# Altium footprint library Radial_16x21.5mm_SMD.PcbLib: 1 footprints
Each footprint in its own frame and in the unit in brackets; x right, y up, seen from the top. Pads: shape width x height; smd on the part's side, far side on the other; paste and mask are expansions set on the pad; w line width, h text height; cw(c..) or ccw(c..) is an arc to the next point about the centre after c.
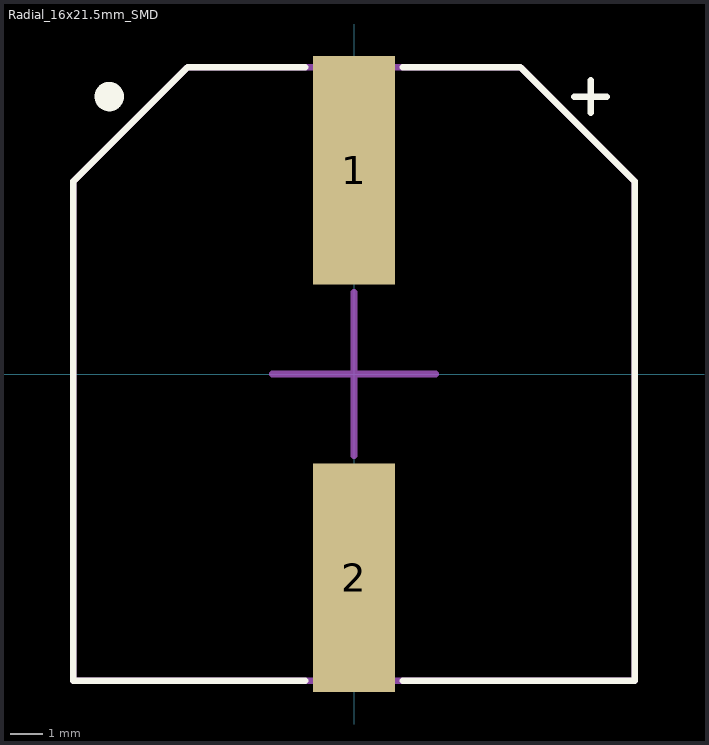
[diagram p0: the footprint, top view; thin cyan lines are the x and y axes]

## Radial_16x21.5mm_SMD [mm]
pads (2):
  rect 2.5x7 smd paste+0 mask+0: 1(0,6.25) 2(0,-6.25)
Top Overlay:
  circle w0.5: c-7.5,8.5 r0.2
  lines w0.2: -1.5,-9.4 -8.6,-9.4 -8.6,5.9 -5.1,9.4 -1.5,9.4 ; 1.5,-9.4 8.6,-9.4 8.6,5.9 5.1,9.4 1.5,9.4 ; 6.75,8.5 7.75,8.5 ; 7.25,8 7.25,9
Top Designator:
  text ".Designator" at -7.618,-0.508 h1.52
3D Body:
  lines w0.2: -8.6,-9.4 8.6,-9.4 8.6,5.9 5.1,9.4 -5.1,9.4 -8.6,5.9 -8.6,-9.4
Center Cross:
  lines w0.2: -2.5,0 0,0 ; 0,-2.5 0,0 ; 0,2.5 0,0 ; 2.5,0 0,0
3D body "CAP_S-V_16X21P5_RUB.step": height 22.05, standoff 0, extent -8.598,-9.398 8.598,9.398